# EAGLE library part SFV26R-2STE1LF (library FCI-tkr)
FFC/FPC CONNECTOR, RECEPTACLE 26POS 1ROW
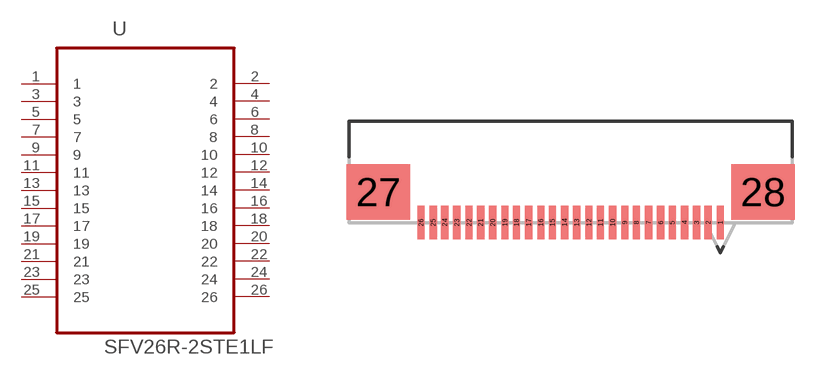
[diagram p52: symbol with the pads of FCI_SFV26R-2STE1LF; footprint FCI_SFV26R-2STE1LF]

Designator prefix U

## SFV26R-2STE1LF (MPN: SFV26R-2STE1LF; OC_FARNELL: -; OC_NEWARK: 06M0262; PACKAGE: Connectors - 26POS; SUPPLIER: FCI)  [FCI_SFV26R-2STE1LF]
1  1  pas
2  2  pas
3  3  pas
4  4  pas
5  5  pas
6  6  pas
7  7  pas
8  8  pas
9  9  pas
10  10  pas
11  11  pas
12  12  pas
13  13  pas
14  14  pas
15  15  pas
16  16  pas
17  17  pas
18  18  pas
19  19  pas
20  20  pas
21  21  pas
22  22  pas
23  23  pas
24  24  pas
25  25  pas
26  26  pas

## Footprint FCI_SFV26R-2STE1LF (pad centres in mm)
smd 0.305 x 1.397: 1 6.248,2.083; 2 5.74,2.083; 3 5.258,2.083; 4 4.75,2.083; 5 4.242,2.083; 6 3.759,2.083; 7 3.251,2.083; 8 2.743,2.083; 9 2.261,2.083; 10 1.753,2.083; 11 1.245,2.083; 12 0.762,2.083; 13 0.254,2.083; 14 -0.254,2.083; 15 -0.762,2.083; 16 -1.245,2.083; 17 -1.753,2.083; 18 -2.261,2.083; 19 -2.743,2.083; 20 -3.251,2.083; 21 -3.759,2.083; 22 -4.242,2.083; 23 -4.75,2.083; 24 -5.258,2.083; 25 -5.74,2.083; 26 -6.248,2.083
smd 2.642 x 2.311: 27 -8.026,3.353; 28 8.026,3.353